# EAGLE library part MC06-G (library con-phoenix-381)
Mini-Combicon 3.81mm horizontal 6-polig MC 1,5/6-G-3,81 Artikel-Nr. 1803331 mit Gegenstecker MC 1,5/6-ST-3,81 Artikel-Nr. 1803617
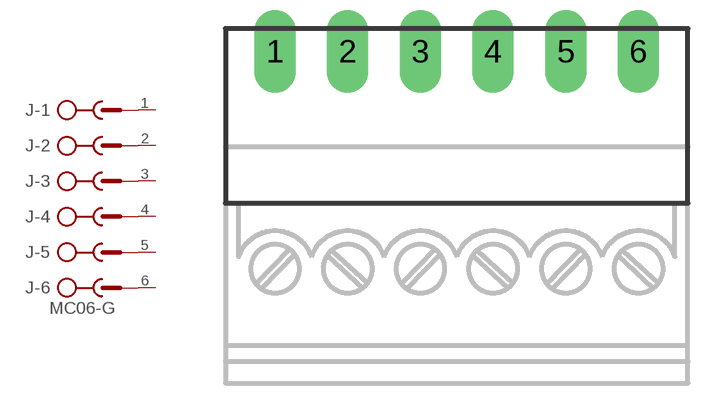
[diagram p13: symbol with the pads of MC6-G; footprint MC6-G]

Designator prefix J; gates -1=SK -2=SK -3=SK -4=SK -5=SK -6=SK+V

## MC06-G  [MC6-G]
1  -1:SK  pas
2  -2:SK  pas
3  -3:SK  pas
4  -4:SK  pas
5  -5:SK  pas
6  -6:SK  pas

## Footprint MC6-G (pad centres in mm)
Mini-Combicon 3.81mm horizontal 6-polig MC 1,5/6-G-3,81 Artikel-Nr. 1803331 mit Gegenstecker MC 1,5/6-ST-3,81 Artikel-Nr. 1803617
drill 1.27 pad 2.184 long: 1 -9.525,0; 2 -5.715,0; 3 -1.905,0; 4 1.905,0; 5 5.715,0; 6 9.525,0